# Altium footprint library STM32H730VBH6.PcbLib: 1 footprints
Each footprint in its own frame and in the unit in brackets; x right, y up, seen from the top. Pads: shape width x height; smd on the part's side, far side on the other; paste and mask are expansions set on the pad; w line width, h text height; cw(c..) or ccw(c..) is an arc to the next point about the centre after c.
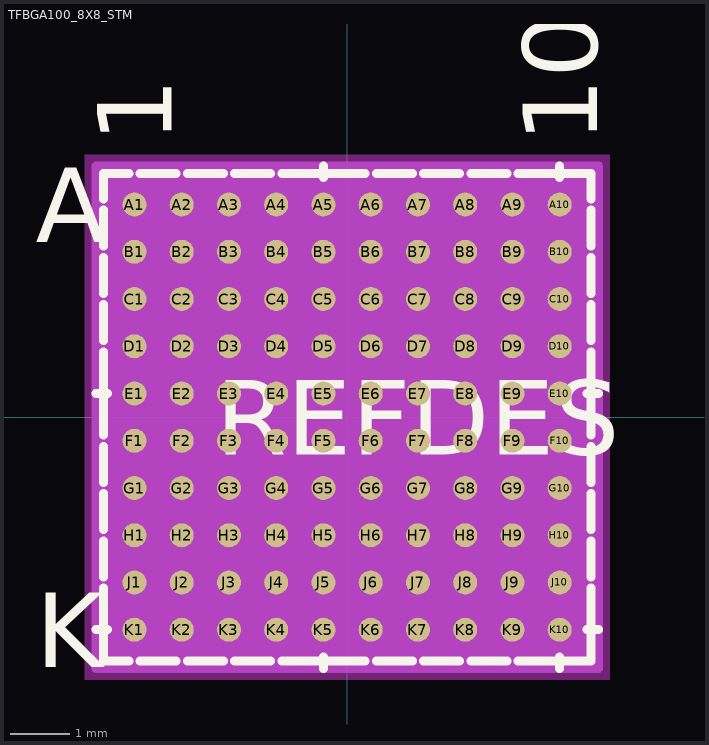
[diagram p0: the footprint, top view; thin cyan lines are the x and y axes]

## TFBGA100_8X8_STM [mm]
pads (100):
  round 0.406 smd paste+0 mask+0: A1(-3.6,3.6) A2(-2.8,3.6) A3(-2,3.6) A4(-1.2,3.6) A5(-0.4,3.6) A6(0.4,3.6) A7(1.2,3.6) A8(2,3.6) A9(2.8,3.6) A10(3.6,3.6) B1(-3.6,2.8) B2(-2.8,2.8) B3(-2,2.8) B4(-1.2,2.8) B5(-0.4,2.8) B6(0.4,2.8) B7(1.2,2.8) B8(2,2.8) B9(2.8,2.8) B10(3.6,2.8) C1(-3.6,2) C2(-2.8,2) C3(-2,2) C4(-1.2,2) C5(-0.4,2) C6(0.4,2) C7(1.2,2) C8(2,2) C9(2.8,2) C10(3.6,2) D1(-3.6,1.2) D2(-2.8,1.2) D3(-2,1.2) D4(-1.2,1.2) D5(-0.4,1.2) D6(0.4,1.2) D7(1.2,1.2) D8(2,1.2) D9(2.8,1.2) D10(3.6,1.2) E1(-3.6,0.4) E2(-2.8,0.4) E3(-2,0.4) E4(-1.2,0.4) E5(-0.4,0.4) E6(0.4,0.4) E7(1.2,0.4) E8(2,0.4) E9(2.8,0.4) E10(3.6,0.4) F1(-3.6,-0.4) F2(-2.8,-0.4) F3(-2,-0.4) F4(-1.2,-0.4) F5(-0.4,-0.4) F6(0.4,-0.4) F7(1.2,-0.4) F8(2,-0.4) F9(2.8,-0.4) F10(3.6,-0.4) G1(-3.6,-1.2) G2(-2.8,-1.2) G3(-2,-1.2) G4(-1.2,-1.2) G5(-0.4,-1.2) G6(0.4,-1.2) G7(1.2,-1.2) G8(2,-1.2) G9(2.8,-1.2) G10(3.6,-1.2) H1(-3.6,-2) H2(-2.8,-2) H3(-2,-2) H4(-1.2,-2) H5(-0.4,-2) H6(0.4,-2) H7(1.2,-2) H8(2,-2) H9(2.8,-2) H10(3.6,-2) J1(-3.6,-2.8) J2(-2.8,-2.8) J3(-2,-2.8) J4(-1.2,-2.8) J5(-0.4,-2.8) J6(0.4,-2.8) J7(1.2,-2.8) J8(2,-2.8) J9(2.8,-2.8) J10(3.6,-2.8) K1(-3.6,-3.6) K2(-2.8,-3.6) K3(-2,-3.6) K4(-1.2,-3.6) K5(-0.4,-3.6) K6(0.4,-3.6) K7(1.2,-3.6) K8(2,-3.6) K9(2.8,-3.6) K10(3.6,-3.6)
Top Overlay:
  lines w0.152: -4.255,-3.6 -4.06,-3.6 ; -4.255,0.4 -4.06,0.4 ; -4.127,-3.695 -4.127,-4.127 -3.695,-4.127 ; -4.127,-3.505 -4.127,-2.895 ; -4.127,-2.705 -4.127,-2.095 ; -4.127,-1.905 -4.127,-1.295 ; -4.127,-1.105 -4.127,-0.495 ; -4.127,-0.305 -4.127,0.305 ; -4.127,0.495 -4.127,1.105 ; -4.127,1.295 -4.127,1.905 ; -4.127,2.095 -4.127,2.705 ; -4.127,2.895 -4.127,3.505 ; -4.127,3.695 -4.127,4.127 -3.695,4.127 ; -3.505,-4.127 -2.895,-4.127 ; -3.505,4.127 -2.895,4.127 ; -2.705,-4.127 -2.095,-4.127 ; -2.705,4.127 -2.095,4.127 ; -1.905,-4.127 -1.295,-4.127 ; -1.905,4.127 -1.295,4.127 ; -1.105,-4.127 -0.495,-4.127 ; -1.105,4.127 -0.495,4.127 ; -0.4,-4.255 -0.4,-4.06 ; -0.4,4.06 -0.4,4.255 ; -0.305,-4.127 0.305,-4.127 ; -0.305,4.127 0.305,4.127 ; 0.495,-4.127 1.105,-4.127 ; 0.495,4.127 1.105,4.127 ; 1.295,-4.127 1.905,-4.127 ; 1.295,4.127 1.905,4.127 ; 2.095,-4.127 2.705,-4.127 ; 2.095,4.127 2.705,4.127 ; 2.895,-4.127 3.505,-4.127 ; 2.895,4.127 3.505,4.127 ; 3.6,-4.255 3.6,-4.06 ; 3.6,4.06 3.6,4.255 ; 3.695,-4.127 4.127,-4.127 4.127,-3.695 ; 3.695,4.127 4.127,4.127 4.127,3.695 ; 4.06,-3.6 4.255,-3.6 ; 4.06,0.4 4.255,0.4 ; 4.127,-3.505 4.127,-2.895 ; 4.127,-2.705 4.127,-2.095 ; 4.127,-1.905 4.127,-1.295 ; 4.127,-1.105 4.127,-0.495 ; 4.127,-0.305 4.127,0.305 ; 4.127,0.495 4.127,1.105 ; 4.127,1.295 4.127,1.905 ; 4.127,2.095 4.127,2.705 ; 4.127,2.895 4.127,3.505
  text "REFDES" at -2.222,-0.635 h1.27
  text "10" at 4.235,4.635 h1.27
  text "1" at -2.965,4.635 h1.27
  text "K" at -5.271,-4.235 h1.27
  text "A" at -5.271,2.965 h1.27
Bottom Overlay:
  text "10" at 2.965,4.635 h1.27
  text "1" at -4.235,4.635 h1.27
  text "K" at -4.635,-4.235 h1.27
  text "A" at -4.635,2.965 h1.27
Keep-Out Layer:
  region: -4.444,-4.444 -4.444,4.444 4.444,4.444 4.444,-4.444
Mechanical 13:
  lines w0.025: -4,3.601 -3.601,4 ; -4,-4 -4,4 4,4 4,-4 -4,-4
  text "RefDes2" at -2.222,-0.635 h1.27
  text "10" at 4.235,4.635 h1.27
  text "1" at -2.965,4.635 h1.27
  text "K" at -5.271,-4.235 h1.27
  text "A" at -5.271,2.965 h1.27
Mechanical 15:
  region: 4.255,-4.255 -4.255,-4.255 -4.255,4.255 4.255,4.255
  lines w0.152: -4.255,-4.255 4.255,-4.255 4.255,4.255 -4.255,4.255 -4.255,-4.255
3D body "TFBGA100_8X8_STM.step": height 1.09, standoff 0, extent -4,-4 4,4
3D body "TFBGA100_8X8_STM.step": height 1.09, standoff 0, extent -4,-4 4,4